# Altium schematic symbol library 243-436_MP_Man-ESP32.SCHLIB: 8 symbols
Pins are listed as number, name and electrical type; pins without a type are passive.

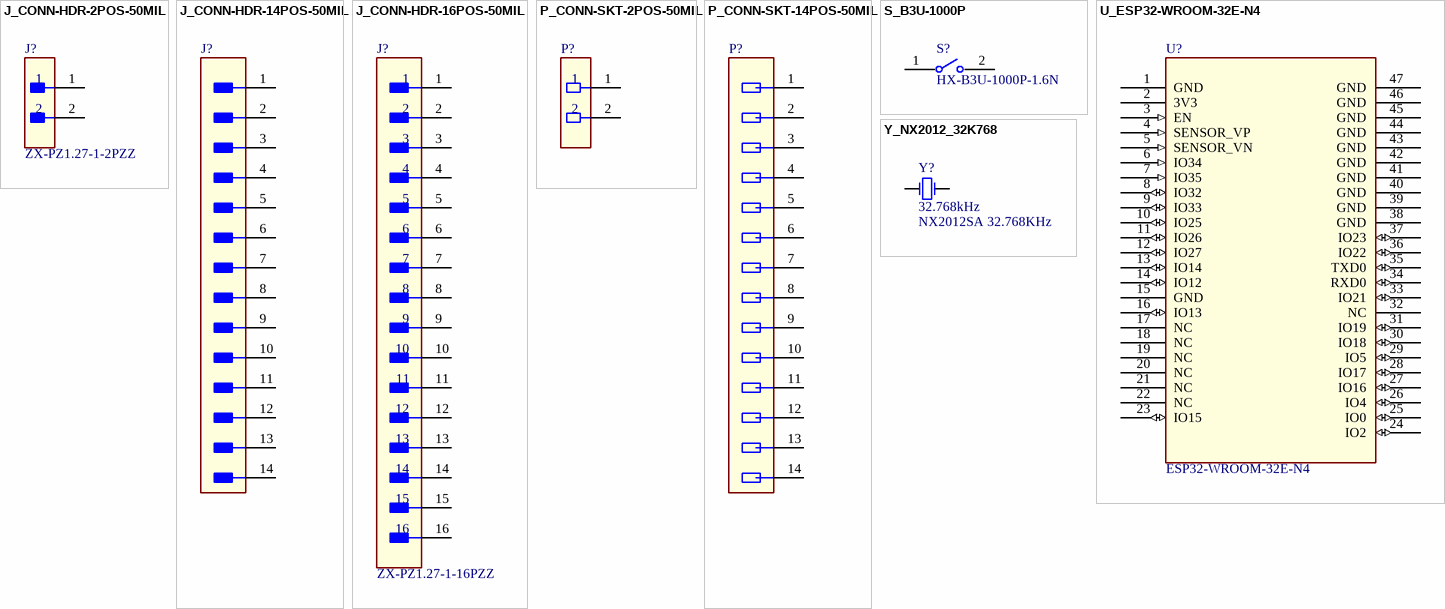
[diagram p0: symbols J_CONN-HDR-2POS-50MIL to Y_NX2012_32K768]

## J_CONN-HDR-2POS-50MIL
designator J?, comment ZX-PZ1.27-1-2PZZ
CONN HEADER 2POS 1.27mm SINGLE ROW TH; Manufacturer 1: Megastar; Mounting Technology: Through-hole; Supplier 1: LCSC; Supplier Part Number 1: C41370734; Manufacturer 2: Sullins; Manufacturer Part Number 1: ZX-PZ1.27-1-2PZZ; Manufacturer Part Number 2: GRPB021VWVN-RC
footprint J_CONN_HDR_1ROW_2POS_50MIL
pins: 1, 2

## J_CONN-HDR-14POS-50MIL
designator J?
CONN HEADER 14POS 1.27mm SINGLE ROW TH; Manufacturer 1: Megastar; Manufacturer Part Number 1: ZX-PZ1.27-1-14PZZ; Mounting Technology: Through-hole; Supplier 1: LCSC; Supplier Part Number 1: C41370746; Manufacturer 2: Sullins; Manufacturer Part Number 2: GRPB141VWVN-RC
footprint J_CONN_HDR_1ROW_14POS_50MIL
pins: 1, 2, 3, 4, 5, 6, 7, 8, 9, 10, 11, 12, 13, 14

## J_CONN-HDR-16POS-50MIL
designator J?, comment ZX-PZ1.27-1-16PZZ
CONN HEADER 16POS 1.27mm SINGLE ROW TH; Manufacturer 1: Megastar; Mounting Technology: Through-hole; Supplier 1: LCSC; Supplier Part Number 1: C41370748; Manufacturer 2: Sullins; Manufacturer Part Number 1: ZX-PZ1.27-1-16PZZ; Manufacturer Part Number 2: GRPB161VWVN-RC
footprint J_CONN_HDR_1ROW_16POS_50MIL
pins: 1, 2, 3, 4, 5, 6, 7, 8, 9, 10, 11, 12, 13, 14, 15, 16

## P_CONN-SKT-2POS-50MIL
designator P?
CONN SOCKET 2POS 1.27mm SINGLE ROW TH; Manufacturer 1: Megastar; Manufacturer Part Number 1: ZX-PM1.27-1-2PU-Z; Mounting Technology: Through-hole; Supplier 1: LCSC; Supplier Part Number 1: C41370629; Manufacturer 2: Sullins
footprint P_CONN_SKT_1ROW_2POS_50MIL
pins: 1, 2

## P_CONN-SKT-14POS-50MIL
designator P?
CONN SOCKET 14POS 1.27mm SINGLE ROW TH; Manufacturer 1: Megastar; Manufacturer Part Number 1: ZX-PM1.27-1-14PU-Z; Mounting Technology: Through-hole; Supplier 1: LCSC; Supplier Part Number 1: C41370641; Manufacturer 2: Sullins
footprint P_CONN_SKT_1ROW_14POS_50MIL
pins: 1, 2, 3, 4, 5, 6, 7, 8, 9, 10, 11, 12, 13, 14

## S_B3U-1000P
designator S?, comment HX-B3U-1000P-1.6N
SWITCH TACTILE SPST-NO 0.05A 12V; Manufacturer 1: hanxia; Mounting Technology: SMT; Supplier 1: LCSC; Supplier Part Number 1: C49234121; Manufacturer 2: Omron; Manufacturer Part Number 1: HX-B3U-1000P-1.6N; Manufacturer Part Number 2: B3U-1000P
footprint S_B3U-1000P
pins: 1, 2

## U_ESP32-WROOM-32E-N4
designator U?, comment ESP32-WROOM-32E-N4
Description; Manufacturer 1: Espressif Systems; Manufacturer Part Number 1: ESP32-WROOM-32E-N4; Supplier 1: LCSC; Supplier Part Number 1: C701341
footprint ESP32­WROOM­32E_EXP
footprint ESP32­WROOM­32E_EXP-TH
pins: 1 GND (power), 2 3V3 (power), 3 EN (in), 4 SENSOR_VP (in), 5 SENSOR_VN (in), 6 IO34 (in), 7 IO35 (in), 8 IO32 (io), 9 IO33 (io), 10 IO25 (io), 11 IO26 (io), 12 IO27 (io), 13 IO14 (io), 14 IO12 (io), 15 GND (power), 16 IO13 (io), 17 NC, 18 NC, 19 NC, 20 NC, 21 NC, 22 NC, 23 IO15 (io), 24 IO2 (io), 25 IO0 (io), 26 IO4 (io), 27 IO16 (io), 28 IO17 (io), 29 IO5 (io), 30 IO18 (io), 31 IO19 (io), 32 NC, 33 IO21 (io), 34 RXD0 (io), 35 TXD0 (io), 36 IO22 (io), 37 IO23 (io), 38 GND (power), 39 GND (power), 40 GND (power), 41 GND (power), 42 GND (power), 43 GND (power), 44 GND (power), 45 GND (power), 46 GND (power), 47 GND (power)

## Y_NX2012_32K768
designator Y?, comment NX2012SA 32.768KHz  value 32.768kHz
Crystal NDK 2.0x1.2mm  32.768 KHz; Manufacturer Part Number 1: NX2012SA 32.768KHz  EXS00A-MU00389; Manufacturer 1: NDK; Manufacturer 2: Epson; Manufacturer Part Number 2: X1A0000610008; Supplier Part Number 1: C96341; Supplier 1: LCSC; Mounting Technology: SMT
footprint Y_2012_2P
pins: 1 OSC1, 2 OSC2